# Altium footprint library SIL-ReedRelay.PcbLib: 1 footprints
Each footprint in its own frame and in the unit in brackets; x right, y up, seen from the top. Pads: shape width x height; smd on the part's side, far side on the other; paste and mask are expansions set on the pad; w line width, h text height; cw(c..) or ccw(c..) is an arc to the next point about the centre after c.
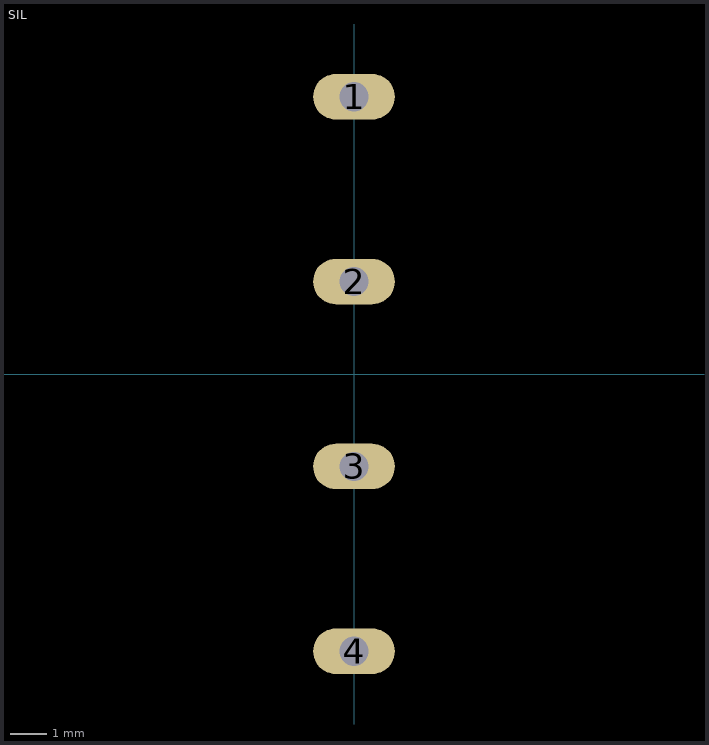
[diagram p0: the footprint, top view; thin cyan lines are the x and y axes]

## SIL [mm] "HE3621A1250_SPST"
height 7.9
pads (4):
  rrect100% 2.25x1.25 hole 0.8: 1(0,7.62) 2(0,2.54) 3(0,-2.54) 4(0,-7.62)